# Altium schematic symbol library preamp.SchLib: 6 symbols
Pins are listed as number, name and electrical type; pins without a type are passive.

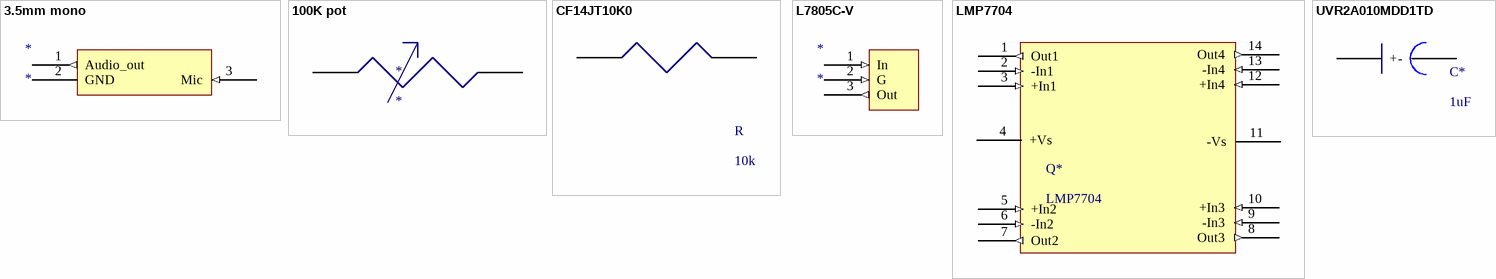
[diagram p0: symbols 3.5mm mono to UVR2A010MDD1TD]

## 3.5mm mono
designator *
pins: 1 Audio_out (out), 2 GND (power), 3 Mic (in)

## 100K pot
designator *
pins: 5, 6

## CF14JT10K0
designator R, comment 10k
RES 10K OHM 1/4W 5% AXIAL; Manufacturer: Stackpole Electronics; Manufacturer Part Number: CF14JT10K0; PCN Part Number: Global Part Number 9/Aug/2010; EDA / CAD Models: Download from Accelerated Designs; Power (Watts): 0.25W, 1/4W; Temperature Coefficient: 0/ -500ppm/°C; Online Catalog: CF Series; Other Names: CF 1/4 10K 5% R  CF1/410K5%R  CF1/410K5%R-ND  CF1/410K5%RTR  CF1/410K5%RTR-ND  CF1/410KJRTR  CF1/410KJRTR-ND  CF14JT10K0TR; Brand/Series: UVR Series; Capacitance: 1 μF; Configuration: Radial, Can; Material, Element: Aluminum Electrolytic; Temperature, Operating, Minimum: -40 Deg. C; Voltage, Rating: 100 VDC; Supplier 1: Future Electronics; Stock 1: 74763; Pricing 1: 1=0.0107, 100=0.0081, 250=0.0077, 500=0.0073, 1500=0.0069 (USD); RoHS Information: RoHS Compliance; Standard Package: 5,000; Category: Resistors; Family: Through Hole Resistors; Series: CF; Packaging: Tape & Reel (TR); Resistance (Ohms): 10k; Tolerance: ±5%; Composition: Carbon Film; Features: Flame Retardant Coating, Safety; Operating Temperature: -55°C ~ 155°C; Package / Case: Axial; Supplier Device Package: Axial; Size / Dimension: 0.091" Dia x 0.256" L (2.30mm x 6.50mm); Height: -; Number of Terminations: 2; ComponentLink1URL: https://www.verical.com/server-webapp/html/getDatasheet?partID=367360&src-supplier=Verical; ComponentLink1Description: https://www.verical.com/server-webapp/html/getDatasheet?partID=367360&src-supplier=Verical; ComponentLink2URL: https://www.seielect.com/catalog/SEI-CF_CFM.pdf?src-supplier=Avnet; ComponentLink2Description: https://www.seielect.com/catalog/SEI-CF_CFM.pdf?src-supplier=Avnet; ComponentLink3URL: http://www.seielect.com/Catalog/SEI-CF_CFM.pdf?src-supplier=Future+Electronics; ComponentLink3Description: http://www.seielect.com/Catalog/SEI-CF_CFM.pdf?src-supplier=Future+Electronics; ComponentLink4URL: https://www.seielect.com/catalog/SEI-Packaging.pdf?src-supplier=Digi-Key; ComponentLink4Description: https://www.seielect.com/catalog/SEI-Packaging.pdf?src-supplier=Digi-Key; ComponentLink5URL: http://components.arrow.com/part/dataview/27619991S9848636N1174?src-supplier=Arrow; ComponentLink5Description: http://components.arrow.com/part/dataview/27619991S9848636N1174?src-supplier=Arrow; Supplier Part Number 1: CF14JT10K0-CUTT; Supplier 2: Allied Electronics; Stock 2: 0; Pricing 2: 6000=0.037 (USD); Case Size: 0.197 In. Dia. x 0.433 In. L (5 mm Dia. x 11 mm L); Lead Spacing: 0.079 In. (2.00 mm) mm; Mounting Type: PCB; Termination: Through-hole; ComponentLink6URL: http://www.nichicon.co.jp/english/products/pdfs/e-vr.pdf?src-supplier=Avnet; ComponentLink6Description: http://www.nichicon.co.jp/english/products/pdfs/e-vr.pdf?src-supplier=Avnet; ComponentLink7URL: http://nichicon-us.com/english/products/pdfs/e-uvr.pdf?src-supplier=Digi-Key; ComponentLink7Description: http://nichicon-us.com/english/products/pdfs/e-uvr.pdf?src-supplier=Digi-Key; ComponentLink8URL: http://www.farnell.com/datasheets/1909356.pdf?src-supplier=Element14; ComponentLink8Description: http://www.farnell.com/datasheets/1909356.pdf?src-supplier=Element14; ComponentLink9URL: http://www.mouser.com/ds/2/293/e-uvr-1076495.pdf?src-supplier=Mouser; ComponentLink9Description: http://www.mouser.com/ds/2/293/e-uvr-1076495.pdf?src-supplier=Mouser; ComponentLink10URL: http://products.nichicon.co.jp/en/pdf/XJA043/e-vr.pdf?src-supplier=Future+Electronics; ComponentLink10Description: http://products.nichicon.co.jp/en/pdf/XJA043/e-vr.pdf?src-supplier=Future+Electronics; ComponentLink11URL: http://www.alliedelec.com/m/d/2079ee50b23aa24d1fe62a3e164465c7.pdf?src-supplier=Allied+Electronics; ComponentLink11Description: http://www.alliedelec.com/m/d/2079ee50b23aa24d1fe62a3e164465c7.pdf?src-supplier=Allied+Electronics; Supplier Part Number 2: 70187519
pins: 0, 1

## L7805C-V
designator *
STMICROELECTRONICS 	   	L7805CV 	   	Linear Voltage Regulators & Vref; Manufacturer Part Number: L7805C-V; Output Type: Fixed; Input Voltage Min: 10V; Input Voltage Max: 35V; Fixed Output Voltage Nom.: 5V; Output Current: 1.5A; Linear Regulator Case Style: TO-220; No. of Pins: 3Pins; Product Range: 7805 Voltage Regulators; SVHC: No SVHC (17-Dec-2015); Supplier 1: Future Electronics; Manufacturer: STMicroelectronics; Stock 1: 124852; Pricing 1: 1=0.245, 300=0.182, 1000=0.171, 3000=0.161, 10000=0.151 (USD); Adjustable Output Voltage Min: -; Adjustable Output Voltage Max: -; Operating Temperature Min: 0°C; Operating Temperature Max: 125°C; Packaging: Tube; Automotive Qualification Standard: -; MSL: -; ComponentLink1URL: http://www.st.com/content/ccc/resource/technical/document/datasheet/41/4f/b3/b0/12/d4/47/88/CD00000444.pdf/files/CD00000444.pdf/jcr:content/translations/en.CD00000444.pdf?src-supplier=Digi-Key; ComponentLink1Description: http://www.st.com/content/ccc/resource/technical/document/datasheet/41/4f/b3/b0/12/d4/47/88/CD00000444.pdf/files/CD00000444.pdf/jcr:content/translations/en.CD00000444.pdf?src-supplier=Digi-Key; ComponentLink2URL: https://www.verical.com/server-webapp/html/getDatasheet?partID=44136&src-supplier=Verical; ComponentLink2Description: https://www.verical.com/server-webapp/html/getDatasheet?partID=44136&src-supplier=Verical; ComponentLink3URL: http://www.jameco.com/Jameco/Products/ProdDS/924633.pdf?src-supplier=Jameco; ComponentLink3Description: http://www.jameco.com/Jameco/Products/ProdDS/924633.pdf?src-supplier=Jameco; ComponentLink4URL: http://www.farnell.com/datasheets/2051023.pdf?src-supplier=Element14; ComponentLink4Description: http://www.farnell.com/datasheets/2051023.pdf?src-supplier=Element14; ComponentLink5URL: https://www.distrelec.biz/Web/Downloads/xc/_e/teL78xx-L78xxC_e.pdf?mime=application%2Fpdf&src-supplier=Distrelec; ComponentLink5Description: https://www.distrelec.biz/Web/Downloads/xc/_e/teL78xx-L78xxC_e.pdf?mime=application%2Fpdf&src-supplier=Distrelec; ComponentLink6URL: http://www.farnell.com/datasheets/2307057.pdf?src-supplier=Element14; ComponentLink6Description: http://www.farnell.com/datasheets/2307057.pdf?src-supplier=Element14; ComponentLink7URL: http://www.rapidonline.com/pdf/47-3290e.pdf?src-supplier=Rapid+Electronics; ComponentLink7Description: http://www.rapidonline.com/pdf/47-3290e.pdf?src-supplier=Rapid+Electronics; ComponentLink8URL: http://www.farnell.com/datasheets/1805459.pdf?src-supplier=Element14; ComponentLink8Description: http://www.farnell.com/datasheets/1805459.pdf?src-supplier=Element14; ComponentLink9URL: http://www.st.com/web/en/resource/technical/document/datasheet/CD00000444.pdf?src-supplier=Digi-Key; ComponentLink9Description: http://www.st.com/web/en/resource/technical/document/datasheet/CD00000444.pdf?src-supplier=Digi-Key; ComponentLink10URL: http://www.farnell.com/datasheets/1805459.pdf?src-supplier=Newark; ComponentLink10Description: http://www.farnell.com/datasheets/1805459.pdf?src-supplier=Newark; ComponentLink11URL: http://www.st.com/web/en/resource/technical/document/datasheet/CD00000444.pdf?src-supplier=Future+Electronics; ComponentLink11Description: http://www.st.com/web/en/resource/technical/document/datasheet/CD00000444.pdf?src-supplier=Future+Electronics; ComponentLink12URL: http://www.produktinfo.conrad.com/datenblaetter/150000-174999/156048-da-01-en-SPANNUNGSREGLER_L_7805_CV__TO220__STM.pdf?src-supplier=Conrad; ComponentLink12Description: http://www.produktinfo.conrad.com/datenblaetter/150000-174999/156048-da-01-en-SPANNUNGSREGLER_L_7805_CV__TO220__STM.pdf?src-supplier=Conrad; ComponentLink13URL: http://datasheet.iiic.cc/stmicroelectronics/L7805CV.pdf?src-supplier=IIIC; ComponentLink13Description: http://datasheet.iiic.cc/stmicroelectronics/L7805CV.pdf?src-supplier=IIIC; Supplier Part Number 1: L7805CV-TUBE
pins: 1 In (in), 2 G (in), 3 Out (out)

## LMP7704
designator Q*
footprint SOIC-14_BREAKOUT
pins: 1 Out1 (out), 2 -In1 (in), 3 +In1 (in), 4 +Vs (power), 5 +In2 (in), 6 -In2 (in), 7 Out2 (out), 8 Out3 (out), 9 -In3 (in), 10 +In3 (in), 11 -Vs (power), 12 +In4 (in), 13 -In4 (in), 14 Out4 (out)

## UVR2A010MDD1TD
designator C*, comment 1uF
Aluminum Electrolytic Capacitors - Leaded 1uF 100V 85c; Manufacturer: Nichicon; Manufacturer Part Number: UVR2A010MDD1TD; Brand/Series: UVR Series; Capacitance: 1 μF; Configuration: Radial, Can; Temperature, Operating, Minimum: -40 Deg. C; Tolerance: -20, +20 %; Voltage, Rating: 100 VDC; Supplier 1: Future Electronics; Stock 1: 6000; Pricing 1: 2000=0.0424, 6000=0.0418, 8000=0.0416, 20000=0.0411, 30000=0.0409 (USD); Case Size: 0.197 In. Dia. x 0.433 In. L (5 mm Dia. x 11 mm L); Lead Spacing: 0.079 In. (2.00 mm) mm; Material, Element: Aluminum Electrolytic; Mounting Type: PCB; Termination: Through-hole; ComponentLink1URL: http://www.nichicon.co.jp/english/products/pdfs/e-vr.pdf?src-supplier=Avnet; ComponentLink1Description: http://www.nichicon.co.jp/english/products/pdfs/e-vr.pdf?src-supplier=Avnet; ComponentLink2URL: http://nichicon-us.com/english/products/pdfs/e-uvr.pdf?src-supplier=Digi-Key; ComponentLink2Description: http://nichicon-us.com/english/products/pdfs/e-uvr.pdf?src-supplier=Digi-Key; ComponentLink3URL: http://www.farnell.com/datasheets/1909356.pdf?src-supplier=Element14; ComponentLink3Description: http://www.farnell.com/datasheets/1909356.pdf?src-supplier=Element14; ComponentLink4URL: http://www.mouser.com/ds/2/293/e-uvr-1076495.pdf?src-supplier=Mouser; ComponentLink4Description: http://www.mouser.com/ds/2/293/e-uvr-1076495.pdf?src-supplier=Mouser; ComponentLink5URL: http://products.nichicon.co.jp/en/pdf/XJA043/e-vr.pdf?src-supplier=Future+Electronics; ComponentLink5Description: http://products.nichicon.co.jp/en/pdf/XJA043/e-vr.pdf?src-supplier=Future+Electronics; ComponentLink6URL: http://www.alliedelec.com/m/d/2079ee50b23aa24d1fe62a3e164465c7.pdf?src-supplier=Allied+Electronics; ComponentLink6Description: http://www.alliedelec.com/m/d/2079ee50b23aa24d1fe62a3e164465c7.pdf?src-supplier=Allied+Electronics; Supplier Part Number 1: UVR2A010MDD1TD-AMMO
pins: 1 -, 2 +